# Altium footprint library avago.PcbLib: 1 footprints
Each footprint in its own frame and in the unit in brackets; x right, y up, seen from the top. Pads: shape width x height; smd on the part's side, far side on the other; paste and mask are expansions set on the pad; w line width, h text height; cw(c..) or ccw(c..) is an arc to the next point about the centre after c.
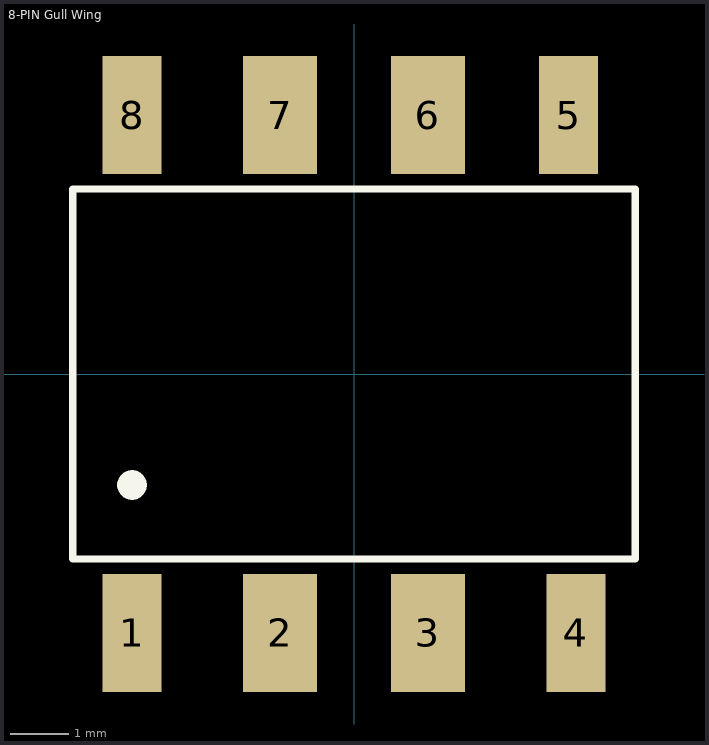
[diagram p0: the footprint, top view; thin cyan lines are the x and y axes]

## 8-PIN Gull Wing [mil] "Gull Wing Package"
height 140
pads (8):
  rect 40x80 smd: 1(-150,-175) 4(150,-175) 5(145,175) 8(-150,175)
  rect 50x80 smd: 2(-50,-175) 3(50,-175) 6(50,175) 7(-50,175)
Top Overlay:
  circle w10: c-150,-75 r5
  lines w5: -190,-125 190,-125 190,125 -190,125 -190,-125